# Altium schematic symbol library MiniFit2.SchLib: 1 symbol
Pins are listed as number, name and electrical type; pins without a type are passive.

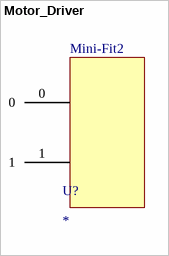
[diagram p0: symbol Motor_Driver]

## Motor_Driver
designator U?
pins: 0, 1
text: Mini-Fit2